# Altium schematic symbol library 430fr5949.SchLib: 2 symbols
Pins are listed as number, name and electrical type; pins without a type are passive.

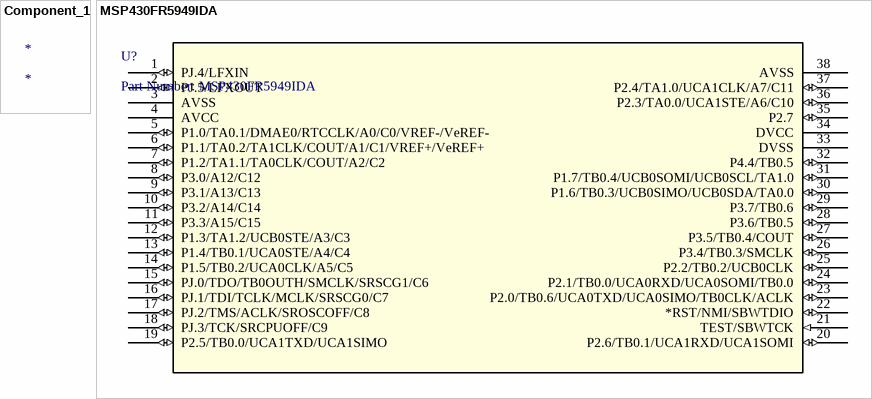
[diagram p0: symbols Component_1 to MSP430FR5949IDA]

## Component_1
designator *

## MSP430FR5949IDA
designator U?, comment Part Number: MSP430FR5949IDA
No Description Available; Vendor: Texas Instruments; Built_By: EMA_UL_Team; Manufacturer_Part_Number: MSP430FR5949IDA; Copyright: Copyright (C) 2018 Accelerated Designs. All rights reserved; RefDes: RefDes; Type: DEV; Value: Value
footprint DA38
pins: 1 PJ.4/LFXIN (io), 2 PJ.5/LFXOUT (io), 3 AVSS (power), 4 AVCC (power), 5 P1.0/TA0.1/DMAE0/RTCCLK/A0/C0/VREF-/VeREF- (io), 6 P1.1/TA0.2/TA1CLK/COUT/A1/C1/VREF+/VeREF+ (io), 7 P1.2/TA1.1/TA0CLK/COUT/A2/C2 (io), 8 P3.0/A12/C12 (io), 9 P3.1/A13/C13 (io), 10 P3.2/A14/C14 (io), 11 P3.3/A15/C15 (io), 12 P1.3/TA1.2/UCB0STE/A3/C3 (io), 13 P1.4/TB0.1/UCA0STE/A4/C4 (io), 14 P1.5/TB0.2/UCA0CLK/A5/C5 (io), 15 PJ.0/TDO/TB0OUTH/SMCLK/SRSCG1/C6 (io), 16 PJ.1/TDI/TCLK/MCLK/SRSCG0/C7 (io), 17 PJ.2/TMS/ACLK/SROSCOFF/C8 (io), 18 PJ.3/TCK/SRCPUOFF/C9 (io), 19 P2.5/TB0.0/UCA1TXD/UCA1SIMO (io), 20 P2.6/TB0.1/UCA1RXD/UCA1SOMI (io), 21 TEST/SBWTCK (in), 22 *RST/NMI/SBWTDIO (io), 23 P2.0/TB0.6/UCA0TXD/UCA0SIMO/TB0CLK/ACLK (io), 24 P2.1/TB0.0/UCA0RXD/UCA0SOMI/TB0.0 (io), 25 P2.2/TB0.2/UCB0CLK (io), 26 P3.4/TB0.3/SMCLK (io), 27 P3.5/TB0.4/COUT (io), 28 P3.6/TB0.5 (io), 29 P3.7/TB0.6 (io), 30 P1.6/TB0.3/UCB0SIMO/UCB0SDA/TA0.0 (io), 31 P1.7/TB0.4/UCB0SOMI/UCB0SCL/TA1.0 (io), 32 P4.4/TB0.5 (io), 33 DVSS (power), 34 DVCC (power), 35 P2.7 (io), 36 P2.3/TA0.0/UCA1STE/A6/C10 (io), 37 P2.4/TA1.0/UCA1CLK/A7/C11 (io), 38 AVSS (power)